# EAGLE library part ZM1240 (library nixietubes-western)
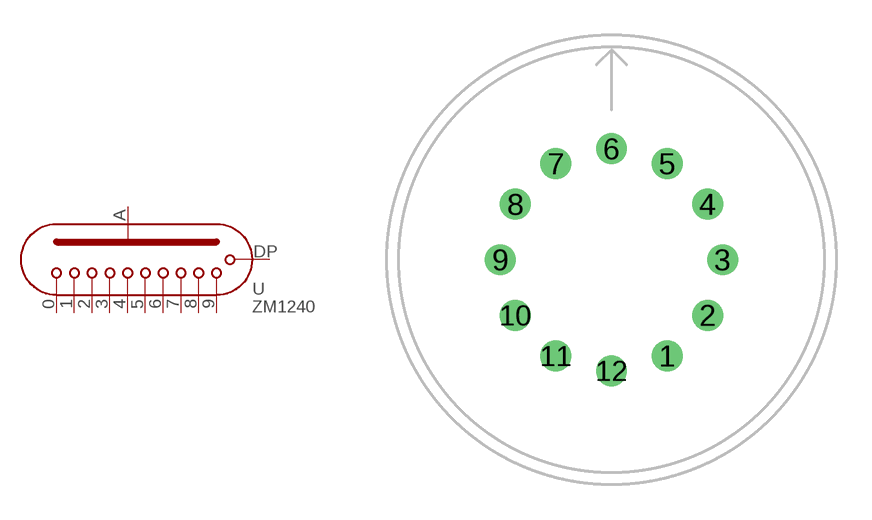
[diagram p3: symbol with the pads of ZM1240; footprint ZM1240]

Designator prefix -

## ZM1240  [ZM1240]
1  1
2  2
3  3
4  4
5  5
6  6
7  7
8  8
9  9
10  0
11  A
12  DP

## Footprint ZM1240 (pad centres in mm)
This is the footprint suitable for the following nixie tubes: * ZM1240 * ZM1242 * CD66 Tube diameter: 19mm Height from PCB: 48mm Symbol Height: 16mm
drill 0.8: 1 2.35,-4.07; 2 4.07,-2.35; 3 4.7,0; 4 4.07,2.35; 5 2.35,4.07; 6 0,4.7; 7 -2.35,4.07; 8 -4.07,2.35; 9 -4.7,0; 10 -4.07,-2.35; 11 -2.35,-4.07; 12 0,-4.7